# EAGLE library part TL2230 (library TL2230)
TL2230 Sub-Miniature Pushbutton Switch Datasheet: https://datasheet.octopart.com/TL2201OAYA-E-Switch-datasheet-119046.pdf
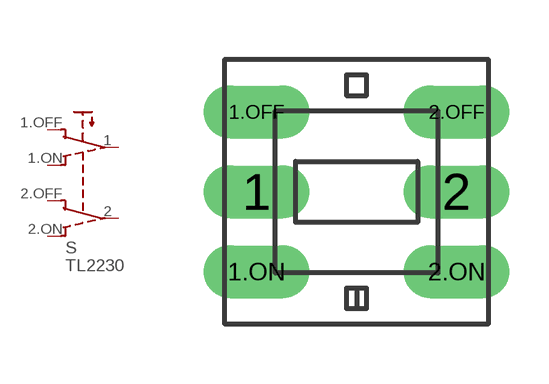
[diagram p0: symbol with the pads of TL2230; footprint TL2230]

Designator prefix S

## TL2230  [TL2230]
1  1  pas
1.OFF  1.OFF  pas
1.ON  1.ON  pas
2  2  pas
2.OFF  2.OFF  pas
2.ON  2.ON  pas

## Footprint TL2230 (pad centres in mm)
drill 0.813 long: 1 -2.5,0; 1.OFF -2.5,2; 1.ON -2.5,-2; 2 2.5,0; 2.OFF 2.5,2; 2.ON 2.5,-2